# Altium schematic symbol library BLM21PG221SN1D.SchLib: 1 symbol
Pins are listed as number, name and electrical type; pins without a type are passive.

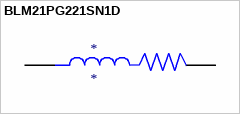
[diagram p0: symbol BLM21PG221SN1D]

## BLM21PG221SN1D
designator *
footprint BEADC2012X105N
pins: 1, 2